# Altium schematic symbol library BSS138N.Schlib: 1 symbol
Pins are listed as number, name and electrical type; pins without a type are passive.

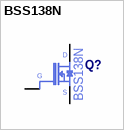
[diagram p0: symbol BSS138N]

## BSS138N
designator Q?
DMN3404L-7; Manufacturer Part Number: BSS138N
pins: 1 G, 2 S, 3 D